# Altium schematic symbol library Relay.SchLib: 257 symbols (part 2 of 3)
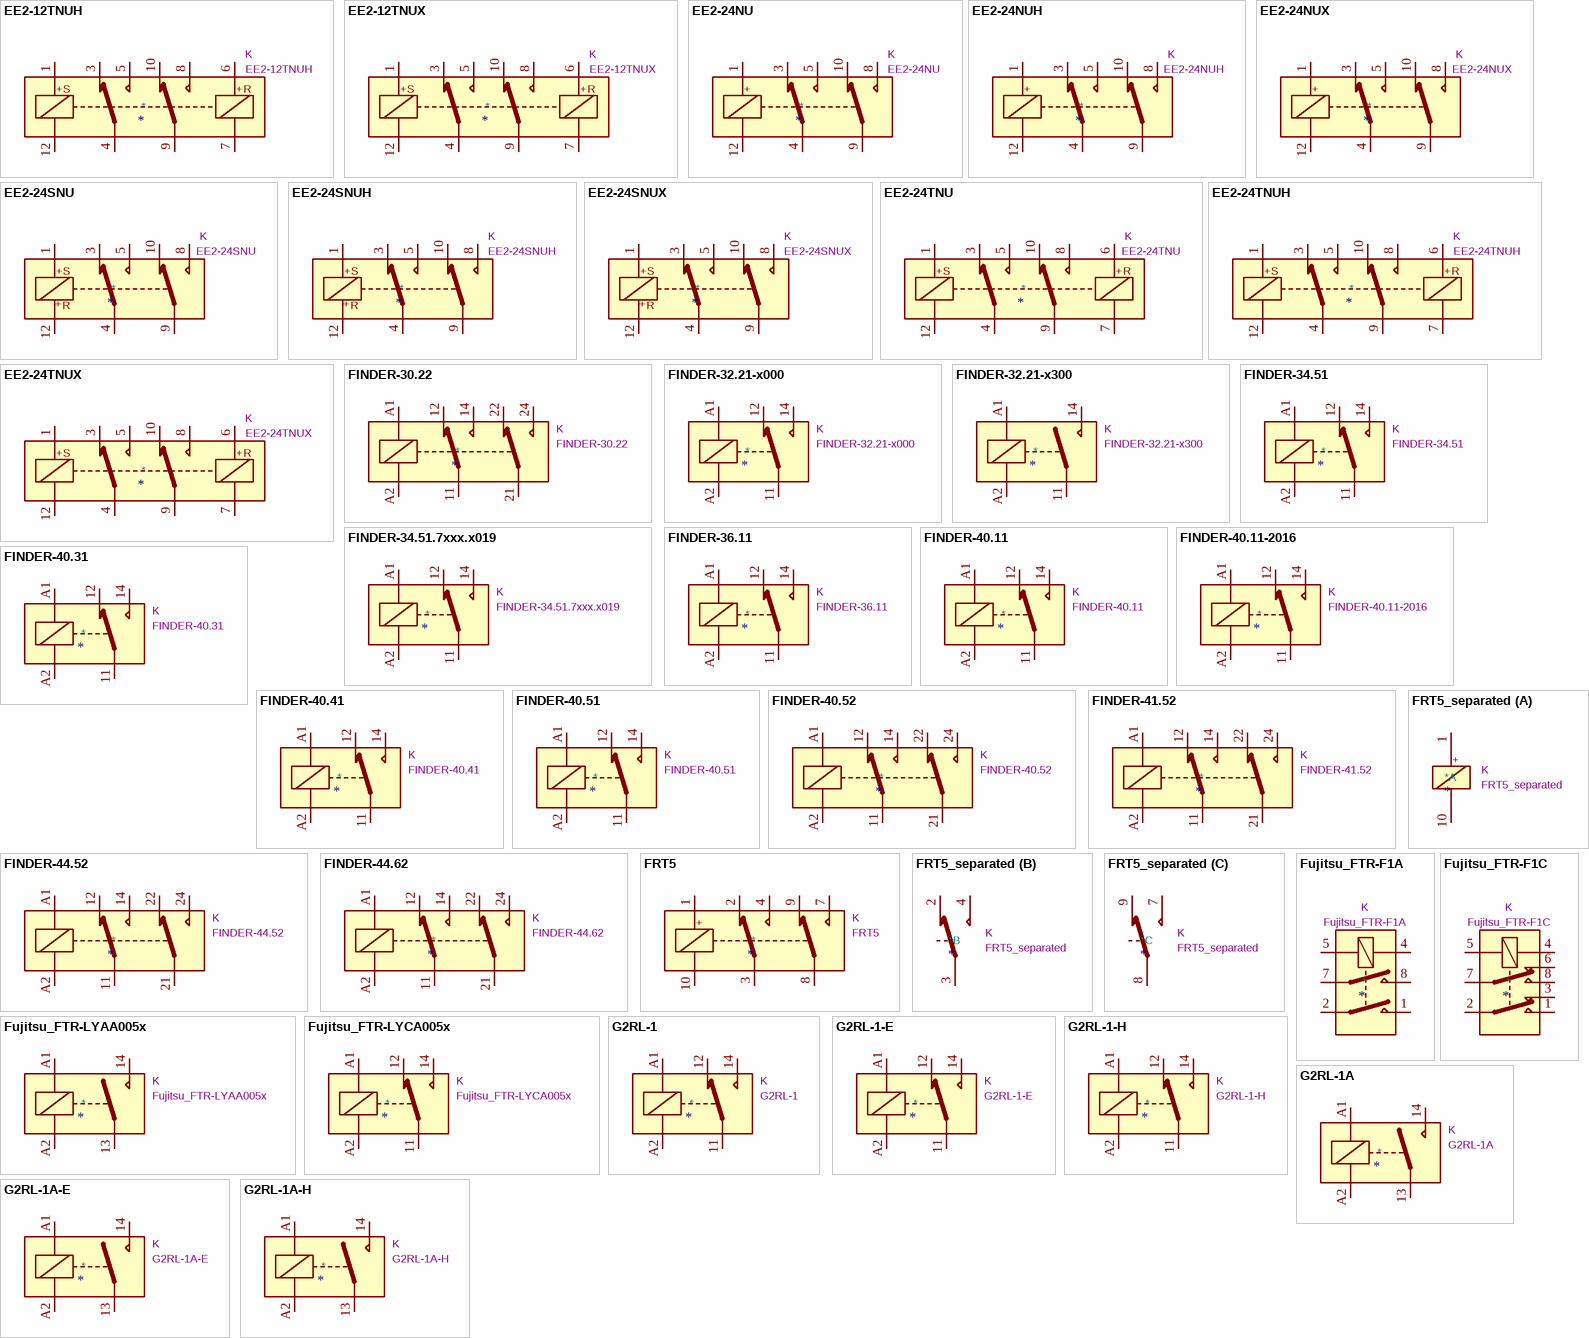
[diagram p7: symbols EE2-12TNUH to G2RL-1A-H]

## EE2-24TNUX
designator *  value EE2-24TNUX  Reference: K
General purpose signal relay, Kemet EE2 Series, DPDT (2 Form C), double coil latching, high solder joint reliability SMD, 60W/125VA, 220VDC/250VAC, 2A, 24V DC coil; ki_keywords: signal relay double pole double throw DPDT DC coil double dual coil latching; ki_fp_filters: Relay*DPDT*Kemet*EE2*NUX*DoubleCoil*; Footprint: Relay_SMD:Relay_DPDT_Kemet_EE2_NUX_DoubleCoil; Datasheet: https://content.kemet.com/datasheets/KEM_R7002_EC2_EE2.pdf; Description_: General purpose signal relay, Kemet EE2 Series, DPDT (2 Form C), double coil latching, high solder joint reliability SMD, 60W/125VA, 220VDC/250VAC, 2A, 24V DC coil
pins: 1, 3, 4, 5, 6, 7, 8, 9, 10, 12
text: +; S; R

## FINDER-30.22
designator *  value FINDER-30.22  Reference: K
FINDER 30.52, Dual Pole Relay, Subminiature 5mm Pitch, 2A; ki_fp_filters: Relay*DPDT*Finder*30.22*; Footprint: Relay_THT:Relay_DPDT_Finder_30.22; Datasheet: http://gfinder.findernet.com/assets/Series/354/S30EN.pdf; Description_: FINDER 30.52, Dual Pole Relay, Subminiature 5mm Pitch, 2A; ki_keywords: Dual Pole Relay
pins: 11, 12, 14, 21, 22, 24, A1, A2

## FINDER-32.21-x000
designator *  value FINDER-32.21-x000  Reference: K
FINDER 32.21-x000, Single Pole Relay, 6A; ki_fp_filters: Relay*SPDT*Finder*32.21*x000*; Footprint: Relay_THT:Relay_SPDT_Finder_32.21-x000; Datasheet: https://gfinder.findernet.com/assets/Series/355/S32EN.pdf; Description_: FINDER 32.21-x000, Single Pole Relay, 6A; ki_keywords: Single Pole Relay
pins: 11, 12, 14, A1, A2

## FINDER-32.21-x300
designator *  value FINDER-32.21-x300  Reference: K
FINDER 32.21-x300, Single Pole Relay SPST-NO, 6A; ki_fp_filters: Relay*SPST*Finder*32.21*x300*; Footprint: Relay_THT:Relay_SPST_Finder_32.21-x300; Datasheet: http://gfinder.findernet.com/assets/Series/355/S32EN.pdf; Description_: FINDER 32.21-x300, Single Pole Relay SPST-NO, 6A; ki_keywords: Single Pole Relay SPST-NO
pins: 11, 14, A1, A2

## FINDER-34.51
designator *  value FINDER-34.51  Reference: K
Ultra-slim 1 Pole - 6A SPDT relay; ki_keywords: Single Pole Relay SPDT; ki_fp_filters: Relay*SPDT*Finder*34.51*; Footprint: Relay_THT:Relay_SPDT_Finder_34.51_Vertical; Datasheet: https://gfinder.findernet.com/public/attachments/34/EN/S34USAEN.pdf; Description_: Ultra-slim 1 Pole - 6A SPDT relay
pins: 11, 12, 14, A1, A2

## FINDER-34.51.7xxx.x019
designator *  value FINDER-34.51.7xxx.x019  Reference: K
Ultra-slim 1 Pole - 6A SPDT relay; ki_keywords: Single Pole Relay SPDT; ki_fp_filters: Relay*SPDT*Finder*34.51*Horizontal*; Footprint: Relay_THT:Relay_SPDT_Finder_34.51_Horizontal; Datasheet: https://gfinder.findernet.com/public/attachments/34/EN/S34USAEN.pdf; Description_: Ultra-slim 1 Pole - 6A SPDT relay
pins: 11, 12, 14, A1, A2

## FINDER-36.11
designator *  value FINDER-36.11  Reference: K
FINDER 36.11, SPDT relay, 10A; ki_fp_filters: Relay*SPDT*Finder*36.11*; Footprint: Relay_THT:Relay_SPDT_Finder_36.11; Datasheet: https://gfinder.findernet.com/public/attachments/36/EN/S36EN.pdf; Description_: FINDER 36.11, SPDT relay, 10A; ki_keywords: spdt relay
pins: 11, 12, 14, A1, A2

## FINDER-40.11
designator *  value FINDER-40.11  Reference: K
PCB SPDT relay, 10A; ki_keywords: Single Pole Relay SPDT Finder; ki_fp_filters: Relay*SPDT*Finder*40.11*; Footprint: Relay_THT:Relay_SPDT_Finder_40.11; Datasheet: https://www.finder-relais.net/de/finder-relais-serie-40.pdf; Description_: PCB SPDT relay, 10A
pins: 11, 12, 14, A1, A2

## FINDER-40.11-2016
designator *  value FINDER-40.11-2016  Reference: K
PCB SPDT relay, 16A; ki_keywords: Single Pole Relay SPDT Finder; ki_fp_filters: Relay*SPDT*Finder*40.11*; Footprint: Relay_THT:Relay_SPDT_Finder_40.11; Datasheet: https://www.finder-relais.net/de/finder-relais-serie-40.pdf; Description_: PCB SPDT relay, 16A
pins: 11, 12, 14, A1, A2

## FINDER-40.31
designator *  value FINDER-40.31  Reference: K
FINDER 40.31, Single Pole Relay, 3.5mm Pitch, 10A; ki_fp_filters: Relay*SPDT*Finder*40.31*; Footprint: Relay_THT:Relay_SPDT_Finder_40.31; Datasheet: http://gfinder.findernet.com/assets/Series/353/S40EN.pdf; Description_: FINDER 40.31, Single Pole Relay, 3.5mm Pitch, 10A; ki_keywords: Single Pole Relay
pins: 11, 12, 14, A1, A2

## FINDER-40.41
designator *  value FINDER-40.41  Reference: K
PCB SPDT relay, 10A; ki_keywords: Single Pole Relay SPDT Finder; ki_fp_filters: Relay*SPDT*Finder*40.41*; Footprint: Relay_THT:Relay_SPDT_Finder_40.41; Datasheet: https://www.finder-relais.net/de/finder-relais-serie-40.pdf; Description_: PCB SPDT relay, 10A
pins: 11, 12, 14, A1, A2

## FINDER-40.51
designator *  value FINDER-40.51  Reference: K
FINDER 40.51, Single Pole Relay, 5mm Pitch, 10A; ki_fp_filters: Relay*SPDT*Finder*40.51*; Footprint: Relay_THT:Relay_SPDT_Finder_40.51; Datasheet: http://gfinder.findernet.com/assets/Series/353/S40EN.pdf; Description_: FINDER 40.51, Single Pole Relay, 5mm Pitch, 10A; ki_keywords: Single Pole Relay
pins: 11, 12, 14, A1, A2

## FINDER-40.52
designator *  value FINDER-40.52  Reference: K
FINDER 40.52, Dual Pole Relay, 5mm Pitch, 10A; ki_fp_filters: Relay*DPDT*Finder*40.52*; Footprint: Relay_THT:Relay_DPDT_Finder_40.52; Datasheet: http://gfinder.findernet.com/assets/Series/353/S40EN.pdf; Description_: FINDER 40.52, Dual Pole Relay, 5mm Pitch, 10A; ki_keywords: Dual Pole Relay
pins: 11, 12, 14, 21, 22, 24, A1, A2

## FINDER-41.52
designator *  value FINDER-41.52  Reference: K
FINDER 41.52, Dual Pole Relay, 5mm Pitch, 8A; ki_fp_filters: Relay*DPDT*Finder*40.52*; Footprint: Relay_THT:Relay_DPDT_Finder_40.52; Datasheet: http://gfinder.findernet.com/assets/Series/357/S41EN.pdf; Description_: FINDER 41.52, Dual Pole Relay, 5mm Pitch, 8A; ki_keywords: Dual Pole Relay
pins: 11, 12, 14, 21, 22, 24, A1, A2

## FINDER-44.52
designator *  value FINDER-44.52  Reference: K
FINDER 44.52, Dual Pole Relay, 5mm Pitch, 6A; ki_fp_filters: Relay*DPDT*Finder*40.52*; Footprint: Relay_THT:Relay_DPDT_Finder_40.52; Datasheet: http://gfinder.findernet.com/assets/Series/359/S44EN.pdf; Description_: FINDER 44.52, Dual Pole Relay, 5mm Pitch, 6A; ki_keywords: Dual Pole Relay
pins: 11, 12, 14, 21, 22, 24, A1, A2

## FINDER-44.62
designator *  value FINDER-44.62  Reference: K
FINDER 44.62, Dual Pole Relay, 5mm Pitch, 10A; ki_fp_filters: Relay*DPDT*Finder*40.52*; Footprint: Relay_THT:Relay_DPDT_Finder_40.52; Datasheet: http://gfinder.findernet.com/assets/Series/359/S44EN.pdf; Description_: FINDER 44.62, Dual Pole Relay, 5mm Pitch, 10A; ki_keywords: Dual Pole Relay
pins: 11, 12, 14, 21, 22, 24, A1, A2

## FRT5
designator *  value FRT5  Reference: K
FORWARD INDUSTRIAL, Miniature Dual Pole Relay, DIP-like package; ki_keywords: relay monostable; ki_fp_filters: Relay*DPDT*FRT5*; Footprint: Relay_THT:Relay_DPDT_FRT5; Datasheet: https://www.elpro.org/de/index.php?controller=attachment&id_attachment=8663; Description_: FORWARD INDUSTRIAL, Miniature Dual Pole Relay, DIP-like package
pins: 1, 2, 3, 4, 7, 8, 9, 10
text: +

## FRT5_separated
designator *  value FRT5_separated  Reference: K
FORWARD INDUSTRIAL, Miniature Dual Pole Relay, DIP-like package, separate subsymbols; ki_keywords: relay monostable; ki_fp_filters: Relay*DPDT*FRT5*; Footprint: Relay_THT:Relay_DPDT_FRT5; Datasheet: https://www.elpro.org/de/index.php?controller=attachment&id_attachment=8663; Description_: FORWARD INDUSTRIAL, Miniature Dual Pole Relay, DIP-like package, separate subsymbols
part A pins: 1, 10
part B pins: 2, 3, 4
part C pins: 7, 8, 9
part A text: +

## Fujitsu_FTR-F1A
designator *  value Fujitsu_FTR-F1A  Reference: K
Fujitsu Low Profile Power Relay; ki_keywords: double pole single throw relay; ki_fp_filters: *Relay*DPST*Fujitsu*FTR*F1A*; Footprint: Relay_THT:Relay_DPST_Fujitsu_FTR-F1A; Datasheet: https://www.fcl.fujitsu.com/downloads/MICRO/fcai/relays/ftr-f1.pdf; Description_: Fujitsu Low Profile Power Relay
pins: 1, 2, 4, 5, 7, 8

## Fujitsu_FTR-F1C
designator *  value Fujitsu_FTR-F1C  Reference: K
Fujitsu Low Profile Power Relay; ki_keywords: double pole double throw relay; ki_fp_filters: *Relay*DPDT*Fujitsu*FTR*F1C*; Footprint: Relay_THT:Relay_DPDT_Fujitsu_FTR-F1C; Datasheet: https://www.fcl.fujitsu.com/downloads/MICRO/fcai/relays/ftr-f1.pdf; Description_: Fujitsu Low Profile Power Relay
pins: 1, 2, 3, 4, 5, 6, 7, 8

## Fujitsu_FTR-LYAA005x
designator *  value Fujitsu_FTR-LYAA005x  Reference: K
Relay, SPST Form A, vertical mount, 5-60V coil, 6A, 250VAC, 28 x 5 x 15mm; ki_keywords: 6A SPST-NO Relay; ki_fp_filters: Relay*Fujitsu*FTR?LYA*; Footprint: Relay_THT:Relay_SPST-NO_Fujitsu_FTR-LYAA005x_FormA_Vertical; Datasheet: https://www.fujitsu.com/sg/imagesgig5/ftr-ly.pdf; Description_: Relay, SPST Form A, vertical mount, 5-60V coil, 6A, 250VAC, 28 x 5 x 15mm
pins: 13, 14, A1, A2

## Fujitsu_FTR-LYCA005x
designator *  value Fujitsu_FTR-LYCA005x  Reference: K
Relay, SPDT Form C, vertical mount, 5-60V coil, 6A, 250VAC, 28 x 5 x 15mm; ki_keywords: 6A SPDT Relay; ki_fp_filters: Relay*Fujitsu*FTR?LYC*; Footprint: Relay_THT:Relay_SPDT_Fujitsu_FTR-LYCA005x_FormC_Vertical; Datasheet: https://www.fujitsu.com/sg/imagesgig5/ftr-ly.pdf; Description_: Relay, SPDT Form C, vertical mount, 5-60V coil, 6A, 250VAC, 28 x 5 x 15mm
pins: 11, 12, 14, A1, A2

## G2RL-1
designator *  value G2RL-1  Reference: K
General Purpose Low Profile Relay SPDT Through Hole, Omron G2RL series, 12A 250VAC; ki_keywords: Single Pole Relay SPDT Omron; ki_fp_filters: Relay?SPDT?Omron?G2RL*; Footprint: Relay_THT:Relay_SPDT_Omron_G2RL-1; Datasheet: https://omronfs.omron.com/en_US/ecb/products/pdf/en-g2rl.pdf; Description_: General Purpose Low Profile Relay SPDT Through Hole, Omron G2RL series, 12A 250VAC
pins: 11, 12, 14, A1, A2

## G2RL-1-E
designator *  value G2RL-1-E  Reference: K
General Purpose Low Profile Relay SPDT Through Hole High Capacity, Omron G2RL series, 16A 250VAC; ki_keywords: Single Pole Relay SPDT Omron High Capacity; ki_fp_filters: Relay?SPDT?Omron?G2RL*E*; Footprint: Relay_THT:Relay_SPDT_Omron_G2RL-1-E; Datasheet: https://omronfs.omron.com/en_US/ecb/products/pdf/en-g2rl.pdf; Description_: General Purpose Low Profile Relay SPDT Through Hole High Capacity, Omron G2RL series, 16A 250VAC
pins: 11, 12, 14, A1, A2

## G2RL-1-H
designator *  value G2RL-1-H  Reference: K
General Purpose Low Profile Relay SPDT Through Hole, Omron G2RL series, High Sensitivity, 10A 250VAC; ki_keywords: Single Pole Relay SPDT Omron High Sensitivity; ki_fp_filters: Relay?SPDT?Omron?G2RL*; Footprint: Relay_THT:Relay_SPDT_Omron_G2RL-1; Datasheet: https://omronfs.omron.com/en_US/ecb/products/pdf/en-g2rl.pdf; Description_: General Purpose Low Profile Relay SPDT Through Hole, Omron G2RL series, High Sensitivity, 10A 250VAC
pins: 11, 12, 14, A1, A2

## G2RL-1A
designator *  value G2RL-1A  Reference: K
General Purpose Low Profile Relay SPST Through Hole, Omron G2RL series, Normally Open, 12A 250VAC; ki_keywords: Single Pole Relay SPST Omron NO; ki_fp_filters: Relay?SPST?Omron?G2RL*; Footprint: Relay_THT:Relay_SPST_Omron_G2RL-1A; Datasheet: https://omronfs.omron.com/en_US/ecb/products/pdf/en-g2rl.pdf; Description_: General Purpose Low Profile Relay SPST Through Hole, Omron G2RL series, Normally Open, 12A 250VAC
pins: 13, 14, A1, A2

## G2RL-1A-E
designator *  value G2RL-1A-E  Reference: K
General Purpose Low Profile Relay SPST Through Hole High Capacity, Omron G2RL series, Normally Open, 16A 250VAC; ki_keywords: Single Pole Relay SPST Omron NO High Capacity; ki_fp_filters: Relay?SPST?Omron?G2RL*E*; Footprint: Relay_THT:Relay_SPST_Omron_G2RL-1A-E; Datasheet: https://omronfs.omron.com/en_US/ecb/products/pdf/en-g2rl.pdf; Description_: General Purpose Low Profile Relay SPST Through Hole High Capacity, Omron G2RL series, Normally Open, 16A 250VAC
pins: 13, 14, A1, A2

## G2RL-1A-H
designator *  value G2RL-1A-H  Reference: K
General Purpose Low Profile Relay SPST Through Hole, Omron G2RL series, Normally Open, High Sensitivity, 10A 250VAC; ki_keywords: Single Pole Relay SPST Omron NO High Sensitivity; ki_fp_filters: Relay?SPST?Omron?G2RL*; Footprint: Relay_THT:Relay_SPST_Omron_G2RL-1A; Datasheet: https://omronfs.omron.com/en_US/ecb/products/pdf/en-g2rl.pdf; Description_: General Purpose Low Profile Relay SPST Through Hole, Omron G2RL series, Normally Open, High Sensitivity, 10A 250VAC
pins: 13, 14, A1, A2

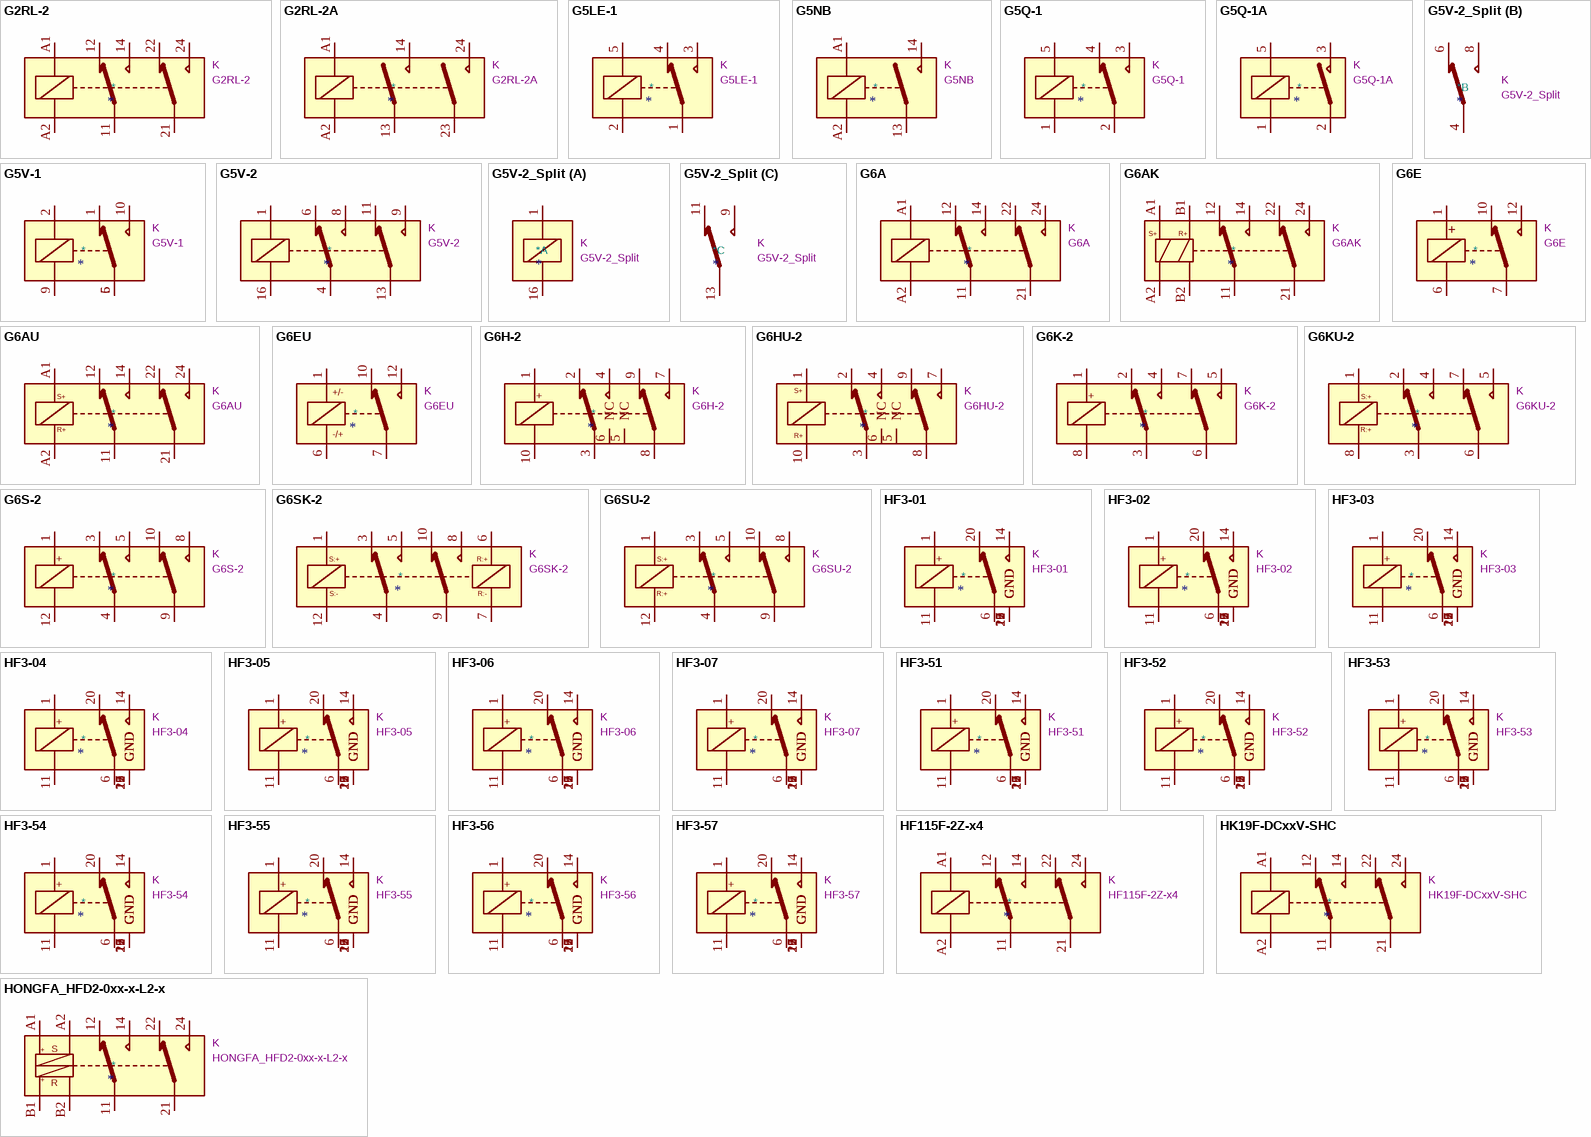
[diagram p3: symbols G2RL-2 to HONGFA_HFD2-0xx-x-L2-x]

## G2RL-2
designator *  value G2RL-2  Reference: K
General Purpose Low Profile Relay DPDT Through Hole, Omron G2RL series, 8A 250VAC; ki_keywords: Dual Pole Relay Omron DPDT; ki_fp_filters: Relay?DPDT?Omron?G2RL*; Footprint: Relay_THT:Relay_DPDT_Omron_G2RL-2; Datasheet: https://omronfs.omron.com/en_US/ecb/products/pdf/en-g2rl.pdf; Description_: General Purpose Low Profile Relay DPDT Through Hole, Omron G2RL series, 8A 250VAC
pins: 11, 12, 14, 21, 22, 24, A1, A2

## G2RL-2A
designator *  value G2RL-2A  Reference: K
General Purpose Low Profile Relay DPST Through Hole, Omron G2RL series, Normally Open,  8A 250VAC; ki_keywords: Dual Pole Relay Omron DPST NO; ki_fp_filters: Relay?DPST?Omron?G2RL*; Footprint: Relay_THT:Relay_DPST_Omron_G2RL-2A; Datasheet: https://omronfs.omron.com/en_US/ecb/products/pdf/en-g2rl.pdf; Description_: General Purpose Low Profile Relay DPST Through Hole, Omron G2RL series, Normally Open,  8A 250VAC
pins: 13, 14, 23, 24, A1, A2

## G5LE-1
designator *  value G5LE-1  Reference: K
Omron G5LE relay, Miniature Single Pole, SPDT, 10A; ki_keywords: Miniature Single Pole Relay; ki_fp_filters: Relay*SPDT*Omron*G5LE?1*; Footprint: Relay_THT:Relay_SPDT_Omron-G5LE-1; Datasheet: http://www.omron.com/ecb/products/pdf/en-g5le.pdf; Description_: Omron G5LE relay, Miniature Single Pole, SPDT, 10A
pins: 1, 2, 3, 4, 5

## G5NB
designator *  value G5NB  Reference: K
PCB Power Relay, SPST-NO, 7A (250 VAC), 5A (30 VDC); ki_keywords: Omron G5NB Relay SPST-NO; ki_fp_filters: Relay?SPST*Omron*G5NB*; Footprint: Relay_THT:Relay_SPST_Omron_G5NB; Datasheet: https://omronfs.omron.com/en_US/ecb/products/pdf/en-g5nb_el.pdf; Description_: PCB Power Relay, SPST-NO, 7A (250 VAC), 5A (30 VDC)
pins: 13, 14, A1, A2

## G5Q-1
designator *  value G5Q-1  Reference: K
Omron G5G relay, Miniature Single Pole, SPDT, 10A; ki_keywords: Miniature Single Pole Relay; ki_fp_filters: Relay*SPDT*Omron*G5Q*; Footprint: Relay_THT:Relay_SPDT_Omron-G5Q-1; Datasheet: https://www.omron.com/ecb/products/pdf/en-g5q.pdf; Description_: Omron G5G relay, Miniature Single Pole, SPDT, 10A
pins: 1, 2, 3, 4, 5

## G5Q-1A
designator *  value G5Q-1A  Reference: K
Omron G5Q relay, Miniature Single Pole, SPST-NO, 10A; ki_keywords: Miniature Single Pole Relay; ki_fp_filters: Relay*SPST*Omron*G5Q*; Footprint: Relay_THT:Relay_SPST_Omron-G5Q-1A; Datasheet: https://www.omron.com/ecb/products/pdf/en-g5q.pdf; Description_: Omron G5Q relay, Miniature Single Pole, SPST-NO, 10A
pins: 1, 2, 3, 5

## G5V-1
designator *  value G5V-1  Reference: K
Ultra-miniature, Highly Sensitive SPDT Relay for Signal Circuits; ki_keywords: Single Pole Relay SPDT; ki_fp_filters: Relay*SPDT*Omron*G5V?1*; Footprint: Relay_THT:Relay_SPDT_Omron_G5V-1; Datasheet: http://omronfs.omron.com/en_US/ecb/products/pdf/en-g5v_1.pdf; Description_: Ultra-miniature, Highly Sensitive SPDT Relay for Signal Circuits
pins: 1, 2, 5, 6, 9, 10

## G5V-2
designator *  value G5V-2  Reference: K
Relay Miniature Omron DPDT; ki_keywords: Miniature Relay Dual Pole DPDT Omron; ki_fp_filters: Relay*DPDT*Omron*G5V*; Footprint: Relay_THT:Relay_DPDT_Omron_G5V-2; Datasheet: http://omronfs.omron.com/en_US/ecb/products/pdf/en-g5v_2.pdf; Description_: Relay Miniature Omron DPDT
pins: 1, 4, 6, 8, 9, 11, 13, 16

## G5V-2_Split
designator *  value G5V-2_Split  Reference: K
Relay Miniature Omron DPDT; ki_keywords: Miniature Relay Dual Pole DPDT Omron; ki_fp_filters: Relay*DPDT*Omron*G5V*; Footprint: Relay_THT:Relay_DPDT_Omron_G5V-2; Datasheet: http://omronfs.omron.com/en_US/ecb/products/pdf/en-g5v_2.pdf; Description_: Relay Miniature Omron DPDT
part A pins: 1, 16
part B pins: 4, 6, 8
part C pins: 9, 11, 13

## G6A
designator *  value G6A  Reference: K
Industry-Standard 2-pole relay, designed to switch 2A Signal Loads, Single-side Stable; ki_keywords: Relay Dual Pole DPDT 2-Form-C Omron; ki_fp_filters: Relay*DPDT*Omron*G6A*; Footprint: Relay_THT:Relay_DPDT_Omron_G6A; Datasheet: https://omronfs.omron.com/en_US/ecb/products/pdf/en-g6a.pdf; Description_: Industry-Standard 2-pole relay, designed to switch 2A Signal Loads, Single-side Stable
pins: 11, 12, 14, 21, 22, 24, A1, A2

## G6AK
designator *  value G6AK  Reference: K
Industry-Standard 2-pole relay, designed to switch 2A Signal Loads, Double-winding Latching; ki_keywords: 2P2T double dual pole throw DPDT 2-Form-C bistable Omron; ki_fp_filters: Relay?DPDT*Omron*G6AK*; Footprint: Relay_THT:Relay_DPDT_Omron_G6AK; Datasheet: https://omronfs.omron.com/en_US/ecb/products/pdf/en-g6a.pdf; Description_: Industry-Standard 2-pole relay, designed to switch 2A Signal Loads, Double-winding Latching
pins: 11, 12, 14, 21, 22, 24, A1, A2, B1, B2
text: S+; R+

## G6AU
designator *  value G6AU  Reference: K
Industry-Standard 2-pole relay, designed to switch 2A Signal Loads, Single-winding Latching; ki_keywords: 2P2T double dual pole throw DPDT 2-Form-C bistable Omron; ki_fp_filters: Relay?DPDT*Omron*G6A*; Footprint: Relay_THT:Relay_DPDT_Omron_G6A; Datasheet: https://omronfs.omron.com/en_US/ecb/products/pdf/en-g6a.pdf; Description_: Industry-Standard 2-pole relay, designed to switch 2A Signal Loads, Single-winding Latching
pins: 11, 12, 14, 21, 22, 24, A1, A2
text: S+; R+

## G6E
designator *  value G6E  Reference: K
Omron Subminiature Sensitive SPDT Signal Switching Relay, Single-Side Stable; ki_keywords: Single Pole Relay SPDT; ki_fp_filters: Relay*SPDT*Omron*G6E*; Footprint: Relay_THT:Relay_SPDT_Omron_G6E; Datasheet: https://www.omron.com/ecb/products/pdf/en-g6e.pdf; Description_: Omron Subminiature Sensitive SPDT Signal Switching Relay, Single-Side Stable
pins: 1, 6, 7, 10, 12
text: +

## G6EU
designator *  value G6EU  Reference: K
Omron G6E relay, Subminiature, Sensitive SPDT Signal Switching Relay, Single-winding latching; ki_keywords: Single Pole Relay SPDT; ki_fp_filters: Relay*SPDT*Omron*G6E*; Footprint: Relay_THT:Relay_SPDT_Omron_G6E; Datasheet: https://www.omron.com/ecb/products/pdf/en-g6e.pdf; Description_: Omron G6E relay, Subminiature, Sensitive SPDT Signal Switching Relay, Single-winding latching
pins: 1, 6, 7, 10, 12
text: +/-; -/+

## G6H-2
designator *  value G6H-2  Reference: K
Omron Ultracompact, Ultrasensitive DPDT Relay, Single-side Stable; ki_keywords: relay monostable; ki_fp_filters: Relay*Omron*G6H?2*; Datasheet: http://cdn-reichelt.de/documents/datenblatt/C300/G6H%23OMR.pdf; Description_: Omron Ultracompact, Ultrasensitive DPDT Relay, Single-side Stable
pins: 1, 2, 3, 4, 5 NC, 6 NC, 7, 8, 9, 10
text: +

## G6HU-2
designator *  value G6HU-2  Reference: K
Omron Ultracompact, Ultrasensitive DPDT Relay, Single-winding Latching; ki_keywords: relay monostable; ki_fp_filters: Relay*Omron*G6H?2*; Footprint: Relay_THT:Relay_DPDT_Omron_G6H-2; Datasheet: http://cdn-reichelt.de/documents/datenblatt/C300/G6H%23OMR.pdf; Description_: Omron Ultracompact, Ultrasensitive DPDT Relay, Single-winding Latching
pins: 1, 2, 3, 4, 5 NC, 6 NC, 7, 8, 9, 10
text: S+; R+

## G6K-2
designator *  value G6K-2  Reference: K
Miniature 2-pole relay, Single-side Stable; ki_keywords: Miniature Relay Dual Pole DPDT Omron; ki_fp_filters: Relay*DPDT*Omron*G6K?2*; Datasheet: http://omronfs.omron.com/en_US/ecb/products/pdf/en-g6k.pdf; Description_: Miniature 2-pole relay, Single-side Stable
pins: 1, 2, 3, 4, 5, 6, 7, 8
text: +

## G6KU-2
designator *  value G6KU-2  Reference: K
Miniature 2-pole relay, Single-winding Latching; ki_keywords: Miniature Relay Dual Pole DPDT Omron; ki_fp_filters: Relay*DPDT*Omron*G6K?2*Y*; Datasheet: http://omronfs.omron.com/en_US/ecb/products/pdf/en-g6k.pdf; Description_: Miniature 2-pole relay, Single-winding Latching
pins: 1, 2, 3, 4, 5, 6, 7, 8
text: S:+; R:+

## G6S-2
designator *  value G6S-2  Reference: K
Compact, Industry-Standard 2-pole relay, designed to switch 2A Signal Loads, Single-side Stable; ki_keywords: Miniature Relay Dual Pole DPDT Omron; ki_fp_filters: Relay*DPDT*Omron*G6S?2*; Datasheet: http://omronfs.omron.com/en_US/ecb/products/pdf/en-g6s.pdf; Description_: Compact, Industry-Standard 2-pole relay, designed to switch 2A Signal Loads, Single-side Stable
pins: 1, 3, 4, 5, 8, 9, 10, 12
text: +

## G6SK-2
designator *  value G6SK-2  Reference: K
Compact, Industry-Standard 2-pole relay, designed to switch 2A Signal Loads, Double-winding Latching; ki_keywords: Miniature Relay Dual Pole DPDT Omron; ki_fp_filters: Relay*DPDT*Omron*G6SK?2*; Datasheet: http://omronfs.omron.com/en_US/ecb/products/pdf/en-g6s.pdf; Description_: Compact, Industry-Standard 2-pole relay, designed to switch 2A Signal Loads, Double-winding Latching
pins: 1, 3, 4, 5, 6, 7, 8, 9, 10, 12
text: S:+; R:+; S:-; R:-

## G6SU-2
designator *  value G6SU-2  Reference: K
Compact, Industry-Standard 2-pole relay, designed to switch 2A Signal Loads, Single-winding Latching; ki_keywords: Miniature Relay Dual Pole DPDT Omron; ki_fp_filters: Relay*DPDT*Omron*G6S?2*; Datasheet: http://omronfs.omron.com/en_US/ecb/products/pdf/en-g6s.pdf; Description_: Compact, Industry-Standard 2-pole relay, designed to switch 2A Signal Loads, Single-winding Latching
pins: 1, 3, 4, 5, 8, 9, 10, 12
text: S:+; R:+

## HF3-01
designator *  value HF3-01  Reference: K
AXICOM HF3 relay, 3GHz, SPDT RF Switching Relay, 75ohm, 3Vdc, Single-Side Stable; ki_keywords: Single Pole Relay SPDT; ki_fp_filters: Relay*SPDT*AXICOM*HF3Series*75ohms*Pitch1.27mm*; Footprint: Relay_SMD:Relay_SPDT_AXICOM_HF3Series_75ohms_Pitch1.27mm; Datasheet: https://www.te.com/commerce/DocumentDelivery/DDEController?Action=srchrtrv&DocNm=108-98000&DocType=SS&DocLang=EN; Description_: AXICOM HF3 relay, 3GHz, SPDT RF Switching Relay, 75ohm, 3Vdc, Single-Side Stable
pins: 1, 2 GND, 5 GND, 6, 7 GND, 10 GND, 11, 12 GND, 13 GND, 14, 15 GND, 17 GND, 19 GND, 20, 21 GND, 22 GND
text: +

## HF3-02
designator *  value HF3-02  Reference: K
AXICOM HF3 relay, 3GHz, SPDT RF Switching Relay, 75ohm, 4.5Vdc, Single-Side Stable; ki_keywords: Single Pole Relay SPDT; ki_fp_filters: Relay*SPDT*AXICOM*HF3Series*75ohms*Pitch1.27mm*; Footprint: Relay_SMD:Relay_SPDT_AXICOM_HF3Series_75ohms_Pitch1.27mm; Datasheet: http://hiqsdr.com/images/3/3e/Axicom-HF3.pdf; Description_: AXICOM HF3 relay, 3GHz, SPDT RF Switching Relay, 75ohm, 4.5Vdc, Single-Side Stable
pins: 1, 2 GND, 5 GND, 6, 7 GND, 10 GND, 11, 12 GND, 13 GND, 14, 15 GND, 17 GND, 19 GND, 20, 21 GND, 22 GND
text: +

## HF3-03
designator *  value HF3-03  Reference: K
AXICOM HF3 relay, 3GHz, SPDT RF Switching Relay, 75ohm, 5Vdc, Single-Side Stable; ki_keywords: Single Pole Relay SPDT; ki_fp_filters: Relay*SPDT*AXICOM*HF3Series*75ohms*Pitch1.27mm*; Footprint: Relay_SMD:Relay_SPDT_AXICOM_HF3Series_75ohms_Pitch1.27mm; Datasheet: http://hiqsdr.com/images/3/3e/Axicom-HF3.pdf; Description_: AXICOM HF3 relay, 3GHz, SPDT RF Switching Relay, 75ohm, 5Vdc, Single-Side Stable
pins: 1, 2 GND, 5 GND, 6, 7 GND, 10 GND, 11, 12 GND, 13 GND, 14, 15 GND, 17 GND, 19 GND, 20, 21 GND, 22 GND
text: +

## HF3-04
designator *  value HF3-04  Reference: K
AXICOM HF3 relay, 3GHz, SPDT RF Switching Relay, 75ohm, 6Vdc, Single-Side Stable; ki_keywords: Single Pole Relay SPDT; ki_fp_filters: Relay*SPDT*AXICOM*HF3Series*75ohms*Pitch1.27mm*; Footprint: Relay_SMD:Relay_SPDT_AXICOM_HF3Series_75ohms_Pitch1.27mm; Datasheet: http://hiqsdr.com/images/3/3e/Axicom-HF3.pdf; Description_: AXICOM HF3 relay, 3GHz, SPDT RF Switching Relay, 75ohm, 6Vdc, Single-Side Stable
pins: 1, 2 GND, 5 GND, 6, 7 GND, 10 GND, 11, 12 GND, 13 GND, 14, 15 GND, 17 GND, 19 GND, 20, 21 GND, 22 GND
text: +

## HF3-05
designator *  value HF3-05  Reference: K
AXICOM HF3 relay, 3GHz, SPDT RF Switching Relay, 75ohm, 9Vdc, Single-Side Stable; ki_keywords: Single Pole Relay SPDT; ki_fp_filters: Relay*SPDT*AXICOM*HF3Series*75ohms*Pitch1.27mm*; Footprint: Relay_SMD:Relay_SPDT_AXICOM_HF3Series_75ohms_Pitch1.27mm; Datasheet: http://hiqsdr.com/images/3/3e/Axicom-HF3.pdf; Description_: AXICOM HF3 relay, 3GHz, SPDT RF Switching Relay, 75ohm, 9Vdc, Single-Side Stable
pins: 1, 2 GND, 5 GND, 6, 7 GND, 10 GND, 11, 12 GND, 13 GND, 14, 15 GND, 17 GND, 19 GND, 20, 21 GND, 22 GND
text: +

## HF3-06
designator *  value HF3-06  Reference: K
AXICOM HF3 relay, 3GHz, SPDT RF Switching Relay, 75ohm, 12Vdc, Single-Side Stable; ki_keywords: Single Pole Relay SPDT; ki_fp_filters: Relay*SPDT*AXICOM*HF3Series*75ohms*Pitch1.27mm*; Footprint: Relay_SMD:Relay_SPDT_AXICOM_HF3Series_75ohms_Pitch1.27mm; Datasheet: http://hiqsdr.com/images/3/3e/Axicom-HF3.pdf; Description_: AXICOM HF3 relay, 3GHz, SPDT RF Switching Relay, 75ohm, 12Vdc, Single-Side Stable
pins: 1, 2 GND, 5 GND, 6, 7 GND, 10 GND, 11, 12 GND, 13 GND, 14, 15 GND, 17 GND, 19 GND, 20, 21 GND, 22 GND
text: +

## HF3-07
designator *  value HF3-07  Reference: K
AXICOM HF3 relay, 3GHz, SPDT RF Switching Relay, 75ohm, 24Vdc, Single-Side Stable; ki_keywords: Single Pole Relay SPDT; ki_fp_filters: Relay*SPDT*AXICOM*HF3Series*75ohms*Pitch1.27mm*; Footprint: Relay_SMD:Relay_SPDT_AXICOM_HF3Series_75ohms_Pitch1.27mm; Datasheet: http://hiqsdr.com/images/3/3e/Axicom-HF3.pdf; Description_: AXICOM HF3 relay, 3GHz, SPDT RF Switching Relay, 75ohm, 24Vdc, Single-Side Stable
pins: 1, 2 GND, 5 GND, 6, 7 GND, 10 GND, 11, 12 GND, 13 GND, 14, 15 GND, 17 GND, 19 GND, 20, 21 GND, 22 GND
text: +

## HF3-51
designator *  value HF3-51  Reference: K
AXICOM HF3 relay, 3GHz, SPDT RF Switching Relay, 50ohm, 3Vdc, Single-Side Stable; ki_keywords: Single Pole Relay SPDT; ki_fp_filters: Relay*SPDT*AXICOM*HF3Series*50ohms*Pitch1.27mm*; Footprint: Relay_SMD:Relay_SPDT_AXICOM_HF3Series_50ohms_Pitch1.27mm; Datasheet: https://www.te.com/commerce/DocumentDelivery/DDEController?Action=srchrtrv&DocNm=108-98000&DocType=SS&DocLang=EN; Description_: AXICOM HF3 relay, 3GHz, SPDT RF Switching Relay, 50ohm, 3Vdc, Single-Side Stable
pins: 1, 2 GND, 5 GND, 6, 7 GND, 10 GND, 11, 12 GND, 13 GND, 14, 15 GND, 17 GND, 19 GND, 20, 21 GND, 22 GND
text: +

## HF3-52
designator *  value HF3-52  Reference: K
AXICOM HF3 relay, 3GHz, SPDT RF Switching Relay, 50ohm, 4.5Vdc, Single-Side Stable; ki_keywords: Single Pole Relay SPDT; ki_fp_filters: Relay*SPDT*AXICOM*HF3Series*50ohms*Pitch1.27mm*; Footprint: Relay_SMD:Relay_SPDT_AXICOM_HF3Series_50ohms_Pitch1.27mm; Datasheet: http://hiqsdr.com/images/3/3e/Axicom-HF3.pdf; Description_: AXICOM HF3 relay, 3GHz, SPDT RF Switching Relay, 50ohm, 4.5Vdc, Single-Side Stable
pins: 1, 2 GND, 5 GND, 6, 7 GND, 10 GND, 11, 12 GND, 13 GND, 14, 15 GND, 17 GND, 19 GND, 20, 21 GND, 22 GND
text: +

## HF3-53
designator *  value HF3-53  Reference: K
AXICOM HF3 relay, 3GHz, SPDT RF Switching Relay, 50ohm, 5Vdc, Single-Side Stable; ki_keywords: Single Pole Relay SPDT; ki_fp_filters: Relay*SPDT*AXICOM*HF3Series*50ohms*Pitch1.27mm*; Footprint: Relay_SMD:Relay_SPDT_AXICOM_HF3Series_50ohms_Pitch1.27mm; Datasheet: http://hiqsdr.com/images/3/3e/Axicom-HF3.pdf; Description_: AXICOM HF3 relay, 3GHz, SPDT RF Switching Relay, 50ohm, 5Vdc, Single-Side Stable
pins: 1, 2 GND, 5 GND, 6, 7 GND, 10 GND, 11, 12 GND, 13 GND, 14, 15 GND, 17 GND, 19 GND, 20, 21 GND, 22 GND
text: +

## HF3-54
designator *  value HF3-54  Reference: K
AXICOM HF3 relay, 3GHz, SPDT RF Switching Relay, 50ohm, 6Vdc, Single-Side Stable; ki_keywords: Single Pole Relay SPDT; ki_fp_filters: Relay*SPDT*AXICOM*HF3Series*50ohms*Pitch1.27mm*; Footprint: Relay_SMD:Relay_SPDT_AXICOM_HF3Series_50ohms_Pitch1.27mm; Datasheet: http://hiqsdr.com/images/3/3e/Axicom-HF3.pdf; Description_: AXICOM HF3 relay, 3GHz, SPDT RF Switching Relay, 50ohm, 6Vdc, Single-Side Stable
pins: 1, 2 GND, 5 GND, 6, 7 GND, 10 GND, 11, 12 GND, 13 GND, 14, 15 GND, 17 GND, 19 GND, 20, 21 GND, 22 GND
text: +

## HF3-55
designator *  value HF3-55  Reference: K
AXICOM HF3 relay, 3GHz, SPDT RF Switching Relay, 50ohm, 9Vdc, Single-Side Stable; ki_keywords: Single Pole Relay SPDT; ki_fp_filters: Relay*SPDT*AXICOM*HF3Series*50ohms*Pitch1.27mm*; Footprint: Relay_SMD:Relay_SPDT_AXICOM_HF3Series_50ohms_Pitch1.27mm; Datasheet: http://hiqsdr.com/images/3/3e/Axicom-HF3.pdf; Description_: AXICOM HF3 relay, 3GHz, SPDT RF Switching Relay, 50ohm, 9Vdc, Single-Side Stable
pins: 1, 2 GND, 5 GND, 6, 7 GND, 10 GND, 11, 12 GND, 13 GND, 14, 15 GND, 17 GND, 19 GND, 20, 21 GND, 22 GND
text: +

## HF3-56
designator *  value HF3-56  Reference: K
AXICOM HF3 relay, 3GHz, SPDT RF Switching Relay, 50ohm, 12Vdc, Single-Side Stable; ki_keywords: Single Pole Relay SPDT; ki_fp_filters: Relay*SPDT*AXICOM*HF3Series*50ohms*Pitch1.27mm*; Footprint: Relay_SMD:Relay_SPDT_AXICOM_HF3Series_50ohms_Pitch1.27mm; Datasheet: http://hiqsdr.com/images/3/3e/Axicom-HF3.pdf; Description_: AXICOM HF3 relay, 3GHz, SPDT RF Switching Relay, 50ohm, 12Vdc, Single-Side Stable
pins: 1, 2 GND, 5 GND, 6, 7 GND, 10 GND, 11, 12 GND, 13 GND, 14, 15 GND, 17 GND, 19 GND, 20, 21 GND, 22 GND
text: +

## HF3-57
designator *  value HF3-57  Reference: K
AXICOM HF3 relay, 3GHz, SPDT RF Switching Relay, 50ohm, 24Vdc, Single-Side Stable; ki_keywords: Single Pole Relay SPDT; ki_fp_filters: Relay*SPDT*AXICOM*HF3Series*50ohms*Pitch1.27mm*; Footprint: Relay_SMD:Relay_SPDT_AXICOM_HF3Series_50ohms_Pitch1.27mm; Datasheet: http://hiqsdr.com/images/3/3e/Axicom-HF3.pdf; Description_: AXICOM HF3 relay, 3GHz, SPDT RF Switching Relay, 50ohm, 24Vdc, Single-Side Stable
pins: 1, 2 GND, 5 GND, 6, 7 GND, 10 GND, 11, 12 GND, 13 GND, 14, 15 GND, 17 GND, 19 GND, 20, 21 GND, 22 GND
text: +

## HF115F-2Z-x4
designator *  value HF115F-2Z-x4  Reference: K
Monostable relay DPDT, 29x12.7mm body size, 5mm pitch, 8A, EN50005; ki_keywords: 2-Form-C; ki_fp_filters: Relay?DPDT*; Footprint: Relay_THT:Relay_DPDT_Hongfa_HF115F-2Z-x4; Datasheet: https://source.hongfa.com//pdf/web/viewer.html?file=/Uploads/Product/PDF/HF115F_I_en.pdf; Description_: Monostable relay DPDT, 29x12.7mm body size, 5mm pitch, 8A, EN50005
pins: 11, 12, 14, 21, 22, 24, A1, A2

## HK19F-DCxxV-SHC
designator *  value HK19F-DCxxV-SHC  Reference: K
HuiKe 19F monostable relay, DPDT, 1A; ki_keywords: 12V DC Relay DPDT; ki_fp_filters: Relay*DPDT*Finder*30.22*; Footprint: Relay_THT:Relay_DPDT_Finder_30.22; Datasheet: https://www.lcsc.com/datasheet/lcsc_datasheet_1810201512_Ningbo-Keke-New-Era-Appliance-HK19F-DC12V-SHG_C42803.pdf; Description_: HuiKe 19F monostable relay, DPDT, 1A
pins: 11, 12, 14, 21, 22, 24, A1, A2

## HONGFA_HFD2-0xx-x-L2-x
designator *  value HONGFA_HFD2-0xx-x-L2-x  Reference: K
Bistable miniature DPDT relay, 3A, 125VAC, THT; ki_keywords: HONGFA set-reset polarized; ki_fp_filters: Relay*DPDT*Omron*G6AK*; Footprint: Relay_THT:Relay_DPDT_Omron_G6AK; Datasheet: https://source_cn.hongfa.com/Api/DownloadPdf/323; Description_: Bistable miniature DPDT relay, 3A, 125VAC, THT
pins: 11, 12, 14, 21, 22, 24, A1, A2, B1, B2
text: +; S; R

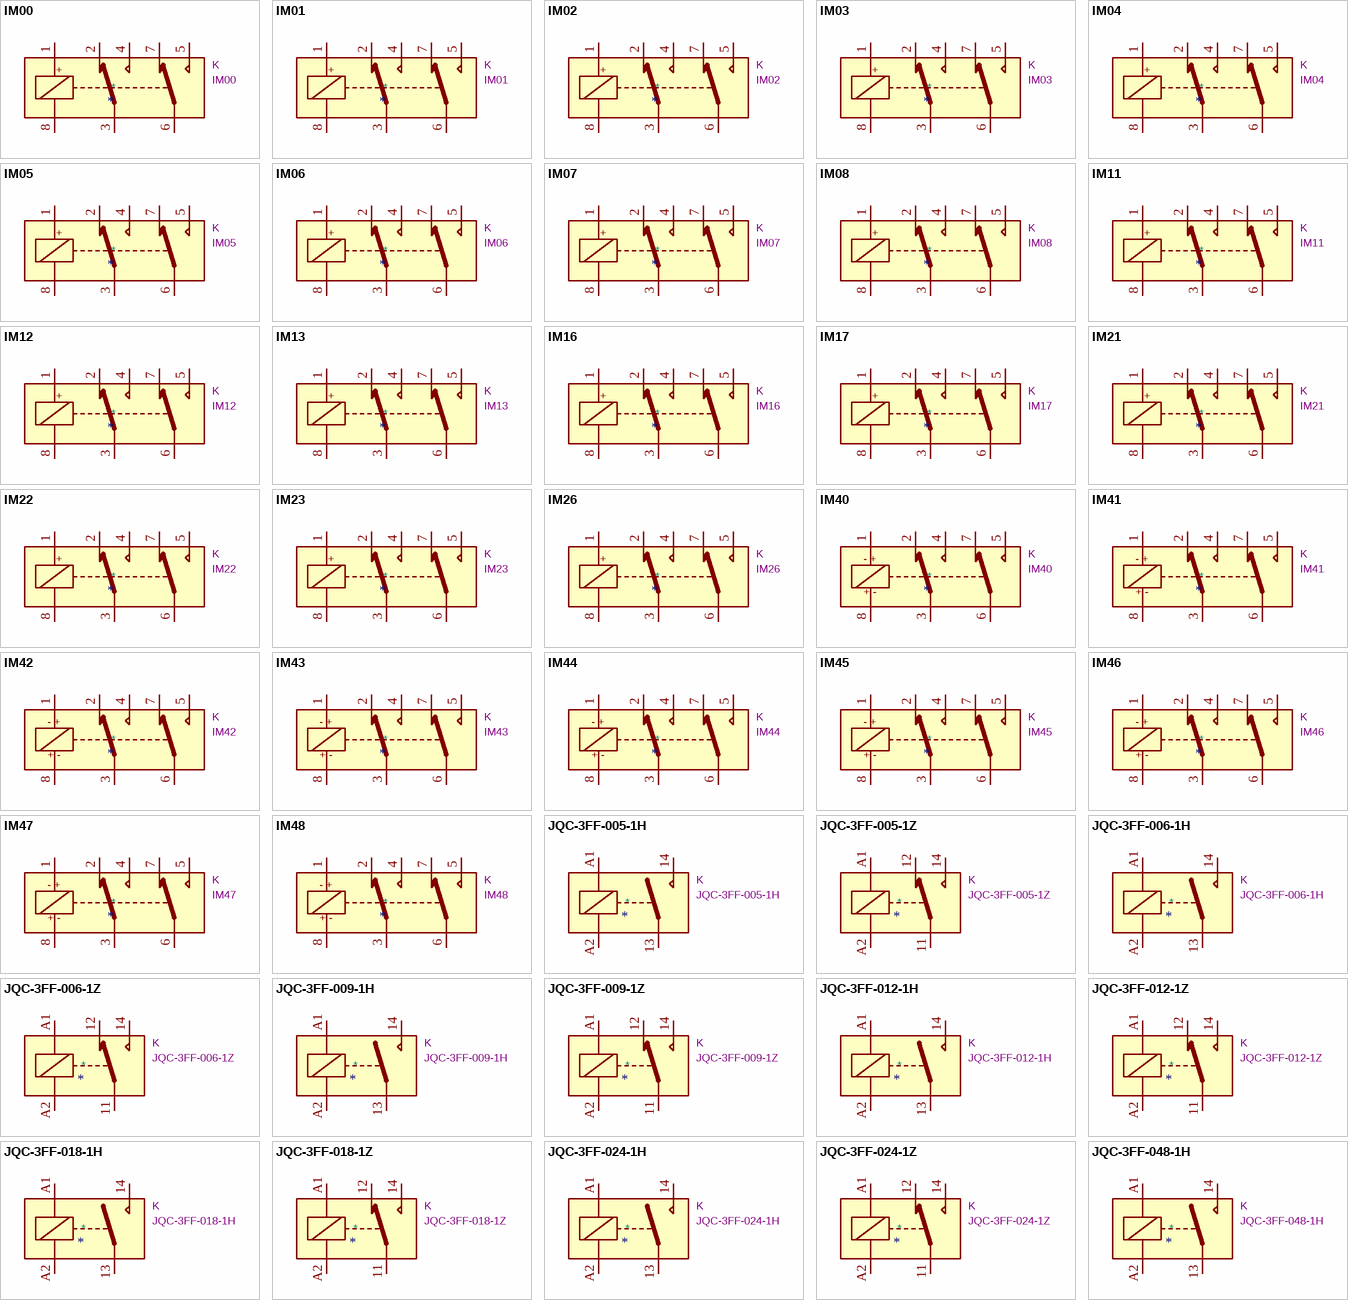
[diagram p4: symbols IM00 to JQC-3FF-048-1H]

## IM00
designator *  value IM00  Reference: K
IM Relay, standard version, monostable, switching current 2/5A, power 60W/62.5VA, voltage 220VDC/250VAC, THT package; ki_keywords: relay monostable; ki_fp_filters: Relay*DPDT*AXICOM*IMSeries*; Datasheet: http://www.te.com/commerce/DocumentDelivery/DDEController?Action=srchrtrv&DocNm=108-98001&DocType=SS&DocLang=EN; Description_: IM Relay, standard version, monostable, switching current 2/5A, power 60W/62.5VA, voltage 220VDC/250VAC, THT package
pins: 1, 2, 3, 4, 5, 6, 7, 8
text: +

## IM01
designator *  value IM01  Reference: K
IM Relay, standard version, monostable, switching current 2/5A, power 60W/62.5VA, voltage 220VDC/250VAC; ki_keywords: relay monostable; ki_fp_filters: Relay*DPDT*AXICOM*IMSeries*; Datasheet: http://www.te.com/commerce/DocumentDelivery/DDEController?Action=srchrtrv&DocNm=108-98001&DocType=SS&DocLang=EN; Description_: IM Relay, standard version, monostable, switching current 2/5A, power 60W/62.5VA, voltage 220VDC/250VAC
pins: 1, 2, 3, 4, 5, 6, 7, 8
text: +

## IM02
designator *  value IM02  Reference: K
IM Relay, standard version, monostable, switching current 2/5A, power 60W/62.5VA, voltage 220VDC/250VAC; ki_keywords: relay monostable; ki_fp_filters: Relay*DPDT*AXICOM*IMSeries*; Datasheet: http://www.te.com/commerce/DocumentDelivery/DDEController?Action=srchrtrv&DocNm=108-98001&DocType=SS&DocLang=EN; Description_: IM Relay, standard version, monostable, switching current 2/5A, power 60W/62.5VA, voltage 220VDC/250VAC
pins: 1, 2, 3, 4, 5, 6, 7, 8
text: +

## IM03
designator *  value IM03  Reference: K
IM Relay, standard version, monostable, switching current 2/5A, power 60W/62.5VA, voltage 220VDC/250VAC; ki_keywords: relay monostable; ki_fp_filters: Relay*DPDT*AXICOM*IMSeries* Relay*2P2T*10x6mm*TE*IMxxG*; Datasheet: http://www.te.com/commerce/DocumentDelivery/DDEController?Action=srchrtrv&DocNm=108-98001&DocType=SS&DocLang=EN; Description_: IM Relay, standard version, monostable, switching current 2/5A, power 60W/62.5VA, voltage 220VDC/250VAC
pins: 1, 2, 3, 4, 5, 6, 7, 8
text: +

## IM04
designator *  value IM04  Reference: K
IM Relay, standard version, monostable, switching current 2/5A, power 60W/62.5VA, voltage 220VDC/250VAC; ki_keywords: relay monostable; ki_fp_filters: Relay*DPDT*AXICOM*IMSeries*; Datasheet: http://www.te.com/commerce/DocumentDelivery/DDEController?Action=srchrtrv&DocNm=108-98001&DocType=SS&DocLang=EN; Description_: IM Relay, standard version, monostable, switching current 2/5A, power 60W/62.5VA, voltage 220VDC/250VAC
pins: 1, 2, 3, 4, 5, 6, 7, 8
text: +

## IM05
designator *  value IM05  Reference: K
IM Relay, standard version, monostable, switching current 2/5A, power 60W/62.5VA, voltage 220VDC/250VAC; ki_keywords: relay monostable; ki_fp_filters: Relay*DPDT*AXICOM*IMSeries*; Datasheet: http://www.te.com/commerce/DocumentDelivery/DDEController?Action=srchrtrv&DocNm=108-98001&DocType=SS&DocLang=EN; Description_: IM Relay, standard version, monostable, switching current 2/5A, power 60W/62.5VA, voltage 220VDC/250VAC
pins: 1, 2, 3, 4, 5, 6, 7, 8
text: +

## IM06
designator *  value IM06  Reference: K
IM Relay, standard version, monostable, switching current 2/5A, power 60W/62.5VA, voltage 220VDC/250VAC; ki_keywords: relay monostable; ki_fp_filters: Relay*DPDT*AXICOM*IMSeries*; Datasheet: http://www.te.com/commerce/DocumentDelivery/DDEController?Action=srchrtrv&DocNm=108-98001&DocType=SS&DocLang=EN; Description_: IM Relay, standard version, monostable, switching current 2/5A, power 60W/62.5VA, voltage 220VDC/250VAC
pins: 1, 2, 3, 4, 5, 6, 7, 8
text: +

## IM07
designator *  value IM07  Reference: K
IM Relay, standard version, monostable, switching current 2/5A, power 60W/62.5VA, voltage 220VDC/250VAC; ki_keywords: relay monostable; ki_fp_filters: Relay*DPDT*AXICOM*IMSeries*; Datasheet: http://www.te.com/commerce/DocumentDelivery/DDEController?Action=srchrtrv&DocNm=108-98001&DocType=SS&DocLang=EN; Description_: IM Relay, standard version, monostable, switching current 2/5A, power 60W/62.5VA, voltage 220VDC/250VAC
pins: 1, 2, 3, 4, 5, 6, 7, 8
text: +

## IM08
designator *  value IM08  Reference: K
IM Relay, standard version, monostable, switching current 2/5A, power 60W/62.5VA, voltage 220VDC/250VAC; ki_keywords: relay monostable; ki_fp_filters: Relay*DPDT*AXICOM*IMSeries*; Datasheet: http://www.te.com/commerce/DocumentDelivery/DDEController?Action=srchrtrv&DocNm=108-98001&DocType=SS&DocLang=EN; Description_: IM Relay, standard version, monostable, switching current 2/5A, power 60W/62.5VA, voltage 220VDC/250VAC
pins: 1, 2, 3, 4, 5, 6, 7, 8
text: +

## IM11
designator *  value IM11  Reference: K
IM Relay, sensitive version, monostable, switching current 2/5A, power 60W/62.5VA, voltage 220VDC/250VAC; ki_keywords: relay monastable sensitive; ki_fp_filters: Relay*DPDT*AXICOM*IMSeries*; Datasheet: http://www.te.com/commerce/DocumentDelivery/DDEController?Action=srchrtrv&DocNm=108-98001&DocType=SS&DocLang=EN; Description_: IM Relay, sensitive version, monostable, switching current 2/5A, power 60W/62.5VA, voltage 220VDC/250VAC
pins: 1, 2, 3, 4, 5, 6, 7, 8
text: +

## IM12
designator *  value IM12  Reference: K
IM Relay, sensitive version, monostable, switching current 2/5A, power 60W/62.5VA, voltage 220VDC/250VAC; ki_keywords: relay monastable sensitive; ki_fp_filters: Relay*DPDT*AXICOM*IMSeries*; Datasheet: http://www.te.com/commerce/DocumentDelivery/DDEController?Action=srchrtrv&DocNm=108-98001&DocType=SS&DocLang=EN; Description_: IM Relay, sensitive version, monostable, switching current 2/5A, power 60W/62.5VA, voltage 220VDC/250VAC
pins: 1, 2, 3, 4, 5, 6, 7, 8
text: +

## IM13
designator *  value IM13  Reference: K
IM Relay, sensitive version, monostable, switching current 2/5A, power 60W/62.5VA, voltage 220VDC/250VAC; ki_keywords: relay monastable sensitive; ki_fp_filters: Relay*DPDT*AXICOM*IMSeries*; Datasheet: http://www.te.com/commerce/DocumentDelivery/DDEController?Action=srchrtrv&DocNm=108-98001&DocType=SS&DocLang=EN; Description_: IM Relay, sensitive version, monostable, switching current 2/5A, power 60W/62.5VA, voltage 220VDC/250VAC
pins: 1, 2, 3, 4, 5, 6, 7, 8
text: +

## IM16
designator *  value IM16  Reference: K
IM Relay, sensitive version, monostable, switching current 2/5A, power 60W/62.5VA, voltage 220VDC/250VAC; ki_keywords: relay monastable sensitive; ki_fp_filters: Relay*DPDT*AXICOM*IMSeries*; Datasheet: http://www.te.com/commerce/DocumentDelivery/DDEController?Action=srchrtrv&DocNm=108-98001&DocType=SS&DocLang=EN; Description_: IM Relay, sensitive version, monostable, switching current 2/5A, power 60W/62.5VA, voltage 220VDC/250VAC
pins: 1, 2, 3, 4, 5, 6, 7, 8
text: +

## IM17
designator *  value IM17  Reference: K
IM Relay, sensitive version, monostable, switching current 2/5A, power 60W/62.5VA, voltage 220VDC/250VAC; ki_keywords: relay monastable sensitive; ki_fp_filters: Relay*DPDT*AXICOM*IMSeries*; Datasheet: http://www.te.com/commerce/DocumentDelivery/DDEController?Action=srchrtrv&DocNm=108-98001&DocType=SS&DocLang=EN; Description_: IM Relay, sensitive version, monostable, switching current 2/5A, power 60W/62.5VA, voltage 220VDC/250VAC
pins: 1, 2, 3, 4, 5, 6, 7, 8
text: +

## IM21
designator *  value IM21  Reference: K
IM Relay, high sensitive version, monostable, switching current 2/5A, power 60W/62.5VA, voltage 220VDC/250VAC; ki_keywords: relay monastable sensitive; ki_fp_filters: Relay*DPDT*AXICOM*IMSeries*; Datasheet: http://www.te.com/commerce/DocumentDelivery/DDEController?Action=srchrtrv&DocNm=108-98001&DocType=SS&DocLang=EN; Description_: IM Relay, high sensitive version, monostable, switching current 2/5A, power 60W/62.5VA, voltage 220VDC/250VAC
pins: 1, 2, 3, 4, 5, 6, 7, 8
text: +

## IM22
designator *  value IM22  Reference: K
IM Relay, high sensitive version, monostable, switching current 2/5A, power 60W/62.5VA, voltage 220VDC/250VAC; ki_keywords: relay monastable sensitive; ki_fp_filters: Relay*DPDT*AXICOM*IMSeries*; Datasheet: http://www.te.com/commerce/DocumentDelivery/DDEController?Action=srchrtrv&DocNm=108-98001&DocType=SS&DocLang=EN; Description_: IM Relay, high sensitive version, monostable, switching current 2/5A, power 60W/62.5VA, voltage 220VDC/250VAC
pins: 1, 2, 3, 4, 5, 6, 7, 8
text: +

## IM23
designator *  value IM23  Reference: K
IM Relay, high sensitive version, monostable, switching current 2/5A, power 60W/62.5VA, voltage 220VDC/250VAC; ki_keywords: relay monastable sensitive; ki_fp_filters: Relay*DPDT*AXICOM*IMSeries*; Datasheet: http://www.te.com/commerce/DocumentDelivery/DDEController?Action=srchrtrv&DocNm=108-98001&DocType=SS&DocLang=EN; Description_: IM Relay, high sensitive version, monostable, switching current 2/5A, power 60W/62.5VA, voltage 220VDC/250VAC
pins: 1, 2, 3, 4, 5, 6, 7, 8
text: +

## IM26
designator *  value IM26  Reference: K
IM Relay, high sensitive version, monostable, switching current 2/5A, power 60W/62.5VA, voltage 220VDC/250VAC; ki_keywords: relay monastable sensitive; ki_fp_filters: Relay*DPDT*AXICOM*IMSeries*; Datasheet: http://www.te.com/commerce/DocumentDelivery/DDEController?Action=srchrtrv&DocNm=108-98001&DocType=SS&DocLang=EN; Description_: IM Relay, high sensitive version, monostable, switching current 2/5A, power 60W/62.5VA, voltage 220VDC/250VAC
pins: 1, 2, 3, 4, 5, 6, 7, 8
text: +

## IM40
designator *  value IM40  Reference: K
IM Relay, standard version, bistable, switching current 2/5A, power 60W/62.5VA, voltage 220VDC/250VAC; ki_keywords: relay bistable; ki_fp_filters: Relay*DPDT*AXICOM*IMSeries*; Datasheet: http://www.te.com/commerce/DocumentDelivery/DDEController?Action=srchrtrv&DocNm=108-98001&DocType=SS&DocLang=EN; Description_: IM Relay, standard version, bistable, switching current 2/5A, power 60W/62.5VA, voltage 220VDC/250VAC
pins: 1, 2, 3, 4, 5, 6, 7, 8
text: - +; + -

## IM41
designator *  value IM41  Reference: K
IM Relay, standard version, bistable, switching current 2/5A, power 60W/62.5VA, voltage 220VDC/250VAC; ki_keywords: relay bistable; ki_fp_filters: Relay*DPDT*AXICOM*IMSeries*; Datasheet: http://www.te.com/commerce/DocumentDelivery/DDEController?Action=srchrtrv&DocNm=108-98001&DocType=SS&DocLang=EN; Description_: IM Relay, standard version, bistable, switching current 2/5A, power 60W/62.5VA, voltage 220VDC/250VAC
pins: 1, 2, 3, 4, 5, 6, 7, 8
text: - +; + -

## IM42
designator *  value IM42  Reference: K
IM Relay, standard version, bistable, switching current 2/5A, power 60W/62.5VA, voltage 220VDC/250VAC; ki_keywords: relay bistable; ki_fp_filters: Relay*DPDT*AXICOM*IMSeries*; Datasheet: http://www.te.com/commerce/DocumentDelivery/DDEController?Action=srchrtrv&DocNm=108-98001&DocType=SS&DocLang=EN; Description_: IM Relay, standard version, bistable, switching current 2/5A, power 60W/62.5VA, voltage 220VDC/250VAC
pins: 1, 2, 3, 4, 5, 6, 7, 8
text: - +; + -

## IM43
designator *  value IM43  Reference: K
IM Relay, standard version, bistable, switching current 2/5A, power 60W/62.5VA, voltage 220VDC/250VAC; ki_keywords: relay bistable; ki_fp_filters: Relay*DPDT*AXICOM*IMSeries*; Datasheet: http://www.te.com/commerce/DocumentDelivery/DDEController?Action=srchrtrv&DocNm=108-98001&DocType=SS&DocLang=EN; Description_: IM Relay, standard version, bistable, switching current 2/5A, power 60W/62.5VA, voltage 220VDC/250VAC
pins: 1, 2, 3, 4, 5, 6, 7, 8
text: - +; + -

## IM44
designator *  value IM44  Reference: K
IM Relay, standard version, bistable, switching current 2/5A, power 60W/62.5VA, voltage 220VDC/250VAC; ki_keywords: relay bistable; ki_fp_filters: Relay*DPDT*AXICOM*IMSeries*; Datasheet: http://www.te.com/commerce/DocumentDelivery/DDEController?Action=srchrtrv&DocNm=108-98001&DocType=SS&DocLang=EN; Description_: IM Relay, standard version, bistable, switching current 2/5A, power 60W/62.5VA, voltage 220VDC/250VAC
pins: 1, 2, 3, 4, 5, 6, 7, 8
text: - +; + -

## IM45
designator *  value IM45  Reference: K
IM Relay, standard version, bistable, switching current 2/5A, power 60W/62.5VA, voltage 220VDC/250VAC; ki_keywords: relay bistable; ki_fp_filters: Relay*DPDT*AXICOM*IMSeries*; Datasheet: http://www.te.com/commerce/DocumentDelivery/DDEController?Action=srchrtrv&DocNm=108-98001&DocType=SS&DocLang=EN; Description_: IM Relay, standard version, bistable, switching current 2/5A, power 60W/62.5VA, voltage 220VDC/250VAC
pins: 1, 2, 3, 4, 5, 6, 7, 8
text: - +; + -

## IM46
designator *  value IM46  Reference: K
IM Relay, standard version, bistable, switching current 2/5A, power 60W/62.5VA, voltage 220VDC/250VAC; ki_keywords: relay bistable; ki_fp_filters: Relay*DPDT*AXICOM*IMSeries*; Datasheet: http://www.te.com/commerce/DocumentDelivery/DDEController?Action=srchrtrv&DocNm=108-98001&DocType=SS&DocLang=EN; Description_: IM Relay, standard version, bistable, switching current 2/5A, power 60W/62.5VA, voltage 220VDC/250VAC
pins: 1, 2, 3, 4, 5, 6, 7, 8
text: - +; + -

## IM47
designator *  value IM47  Reference: K
IM Relay, standard version, bistable, switching current 2/5A, power 60W/62.5VA, voltage 220VDC/250VAC; ki_keywords: relay bistable; ki_fp_filters: Relay*DPDT*AXICOM*IMSeries*; Datasheet: http://www.te.com/commerce/DocumentDelivery/DDEController?Action=srchrtrv&DocNm=108-98001&DocType=SS&DocLang=EN; Description_: IM Relay, standard version, bistable, switching current 2/5A, power 60W/62.5VA, voltage 220VDC/250VAC
pins: 1, 2, 3, 4, 5, 6, 7, 8
text: - +; + -

## IM48
designator *  value IM48  Reference: K
IM Relay, standard version, bistable, switching current 2/5A, power 60W/62.5VA, voltage 220VDC/250VAC; ki_keywords: relay bistable; ki_fp_filters: Relay*DPDT*AXICOM*IMSeries*; Datasheet: http://www.te.com/commerce/DocumentDelivery/DDEController?Action=srchrtrv&DocNm=108-98001&DocType=SS&DocLang=EN; Description_: IM Relay, standard version, bistable, switching current 2/5A, power 60W/62.5VA, voltage 220VDC/250VAC
pins: 1, 2, 3, 4, 5, 6, 7, 8
text: - +; + -

## JQC-3FF-005-1H
designator *  value JQC-3FF-005-1H  Reference: K
Subminiature High Power SPST NO Relay, 5V Coil nom. 0.36W, 15A switching current, max 10A@277VAC/28VDC; ki_keywords: Hongmei; ki_fp_filters: Relay*SPST*Hongfa*JQC*3FF*0XX*1H*; Footprint: Relay_THT:Relay_SPST_Hongfa_JQC-3FF_0XX-1H; Datasheet: https://www.digikey.com/htmldatasheets/production/2071105/0/0/1/JQC-3FF.pdf; Description_: Subminiature High Power SPST NO Relay, 5V Coil nom. 0.36W, 15A switching current, max 10A@277VAC/28VDC
pins: 13, 14, A1, A2

## JQC-3FF-005-1Z
designator *  value JQC-3FF-005-1Z  Reference: K
Subminiature High Power SPDT Relay, 5V Coil nom. 0.36W, 10A switching current, max 10A@277VAC/28VDC; ki_keywords: Hongmei; ki_fp_filters: Relay*SPDT*Hongfa*JQC*3FF*0XX*1Z*; Footprint: Relay_THT:Relay_SPDT_Hongfa_JQC-3FF_0XX-1Z; Datasheet: https://www.digikey.com/htmldatasheets/production/2071105/0/0/1/JQC-3FF.pdf; Description_: Subminiature High Power SPDT Relay, 5V Coil nom. 0.36W, 10A switching current, max 10A@277VAC/28VDC
pins: 11, 12, 14, A1, A2

## JQC-3FF-006-1H
designator *  value JQC-3FF-006-1H  Reference: K
Subminiature High Power SPST NO Relay, 6V Coil nom. 0.36W, 15A switching current, max 10A@277VAC/28VDC; ki_keywords: Hongmei; ki_fp_filters: Relay*SPST*Hongfa*JQC*3FF*0XX*1H*; Footprint: Relay_THT:Relay_SPST_Hongfa_JQC-3FF_0XX-1H; Datasheet: https://www.digikey.com/htmldatasheets/production/2071105/0/0/1/JQC-3FF.pdf; Description_: Subminiature High Power SPST NO Relay, 6V Coil nom. 0.36W, 15A switching current, max 10A@277VAC/28VDC
pins: 13, 14, A1, A2

## JQC-3FF-006-1Z
designator *  value JQC-3FF-006-1Z  Reference: K
Subminiature High Power SPDT Relay, 6V Coil nom. 0.36W, 10A switching current, max 10A@277VAC/28VDC; ki_keywords: Hongmei; ki_fp_filters: Relay*SPDT*Hongfa*JQC*3FF*0XX*1Z*; Footprint: Relay_THT:Relay_SPDT_Hongfa_JQC-3FF_0XX-1Z; Datasheet: https://www.digikey.com/htmldatasheets/production/2071105/0/0/1/JQC-3FF.pdf; Description_: Subminiature High Power SPDT Relay, 6V Coil nom. 0.36W, 10A switching current, max 10A@277VAC/28VDC
pins: 11, 12, 14, A1, A2

## JQC-3FF-009-1H
designator *  value JQC-3FF-009-1H  Reference: K
Subminiature High Power SPST NO Relay, 9V Coil nom. 0.36W, 15A switching current, max 10A@277VAC/28VDC; ki_keywords: Hongmei; ki_fp_filters: Relay*SPST*Hongfa*JQC*3FF*0XX*1H*; Footprint: Relay_THT:Relay_SPST_Hongfa_JQC-3FF_0XX-1H; Datasheet: https://www.digikey.com/htmldatasheets/production/2071105/0/0/1/JQC-3FF.pdf; Description_: Subminiature High Power SPST NO Relay, 9V Coil nom. 0.36W, 15A switching current, max 10A@277VAC/28VDC
pins: 13, 14, A1, A2

## JQC-3FF-009-1Z
designator *  value JQC-3FF-009-1Z  Reference: K
Subminiature High Power SPDT Relay, 9V Coil nom. 0.36W, 10A switching current, max 10A@277VAC/28VDC; ki_keywords: Hongmei; ki_fp_filters: Relay*SPDT*Hongfa*JQC*3FF*0XX*1Z*; Footprint: Relay_THT:Relay_SPDT_Hongfa_JQC-3FF_0XX-1Z; Datasheet: https://www.digikey.com/htmldatasheets/production/2071105/0/0/1/JQC-3FF.pdf; Description_: Subminiature High Power SPDT Relay, 9V Coil nom. 0.36W, 10A switching current, max 10A@277VAC/28VDC
pins: 11, 12, 14, A1, A2

## JQC-3FF-012-1H
designator *  value JQC-3FF-012-1H  Reference: K
Subminiature High Power SPST NO Relay, 12V Coil nom. 0.36W, 15A switching current, max 10A@277VAC/28VDC; ki_keywords: Hongmei; ki_fp_filters: Relay*SPST*Hongfa*JQC*3FF*0XX*1H*; Footprint: Relay_THT:Relay_SPST_Hongfa_JQC-3FF_0XX-1H; Datasheet: https://www.digikey.com/htmldatasheets/production/2071105/0/0/1/JQC-3FF.pdf; Description_: Subminiature High Power SPST NO Relay, 12V Coil nom. 0.36W, 15A switching current, max 10A@277VAC/28VDC
pins: 13, 14, A1, A2

## JQC-3FF-012-1Z
designator *  value JQC-3FF-012-1Z  Reference: K
Subminiature High Power SPDT Relay, 12V Coil nom. 0.36W, 10A switching current, max 10A@277VAC/28VDC; ki_keywords: Hongmei; ki_fp_filters: Relay*SPDT*Hongfa*JQC*3FF*0XX*1Z*; Footprint: Relay_THT:Relay_SPDT_Hongfa_JQC-3FF_0XX-1Z; Datasheet: https://www.digikey.com/htmldatasheets/production/2071105/0/0/1/JQC-3FF.pdf; Description_: Subminiature High Power SPDT Relay, 12V Coil nom. 0.36W, 10A switching current, max 10A@277VAC/28VDC
pins: 11, 12, 14, A1, A2

## JQC-3FF-018-1H
designator *  value JQC-3FF-018-1H  Reference: K
Subminiature High Power SPST NO Relay, 18V Coil nom. 0.36W, 10A switching current, max 15A@277VAC/28VDC; ki_keywords: Hongmei; ki_fp_filters: Relay*SPST*Hongfa*JQC*3FF*0XX*1H*; Footprint: Relay_THT:Relay_SPST_Hongfa_JQC-3FF_0XX-1H; Datasheet: https://www.digikey.com/htmldatasheets/production/2071105/0/0/1/JQC-3FF.pdf; Description_: Subminiature High Power SPST NO Relay, 18V Coil nom. 0.36W, 10A switching current, max 15A@277VAC/28VDC
pins: 13, 14, A1, A2

## JQC-3FF-018-1Z
designator *  value JQC-3FF-018-1Z  Reference: K
Subminiature High Power SPDT Relay, 18V Coil nom. 0.36W, 10A switching current, max 10A@277VAC/28VDC; ki_keywords: Hongmei; ki_fp_filters: Relay*SPDT*Hongfa*JQC*3FF*0XX*1Z*; Footprint: Relay_THT:Relay_SPDT_Hongfa_JQC-3FF_0XX-1Z; Datasheet: https://www.digikey.com/htmldatasheets/production/2071105/0/0/1/JQC-3FF.pdf; Description_: Subminiature High Power SPDT Relay, 18V Coil nom. 0.36W, 10A switching current, max 10A@277VAC/28VDC
pins: 11, 12, 14, A1, A2

## JQC-3FF-024-1H
designator *  value JQC-3FF-024-1H  Reference: K
Subminiature High Power SPST NO Relay, 24V Coil nom. 0.36W, 15A switching current, max 10A@277VAC/28VDC; ki_keywords: Hongmei; ki_fp_filters: Relay*SPST*Hongfa*JQC*3FF*0XX*1H*; Footprint: Relay_THT:Relay_SPST_Hongfa_JQC-3FF_0XX-1H; Datasheet: https://www.digikey.com/htmldatasheets/production/2071105/0/0/1/JQC-3FF.pdf; Description_: Subminiature High Power SPST NO Relay, 24V Coil nom. 0.36W, 15A switching current, max 10A@277VAC/28VDC
pins: 13, 14, A1, A2